# EAGLE library part NODEMCUESP8266 (library NODEMCU)
Node Mcu esp8266 12E LIBRARY BY SDTECH ROBOTICS (Shubham Devkar Technology Solutions)
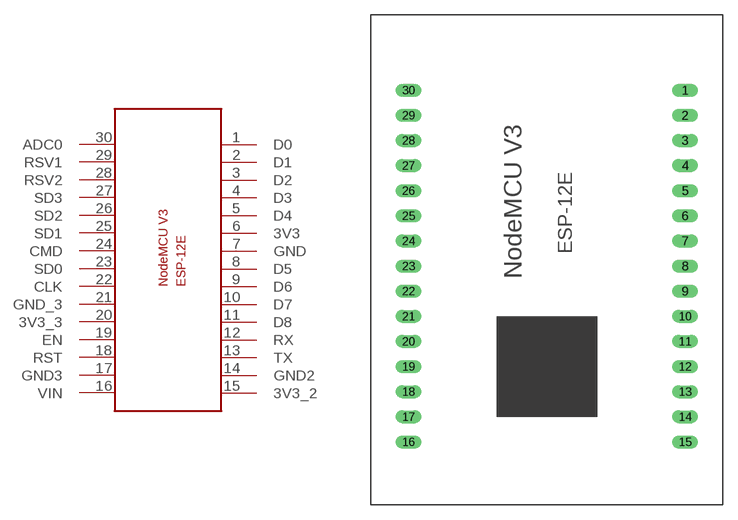
[diagram p0: symbol with the pads of NODEMCUESP8266; footprint NODEMCUESP8266]

Designator prefix -

## NODEMCUESP8266  [NODEMCUESP8266]
1  D0
2  D1
3  D2
4  D3
5  D4
6  3V3
7  GND
8  D5
9  D6
10  D7
11  D8
12  RX
13  TX
14  GND2
15  3V3_2
16  VIN
17  GND3
18  RST
19  EN
20  3V3_3
21  GND_3
22  CLK
23  SD0
24  CMD
25  SD1
26  SD2
27  SD3
28  RSV2
29  RSV1
30  ADC0

## Footprint NODEMCUESP8266 (pad centres in mm)
Node Mcu esp8266 12E LIBRARY BY SDTECH ROBOTICS (Shubham Devkar Technology Solutions)
drill 0.8 long: 1 17.78,15.24; 2 17.78,12.7; 3 17.78,10.16; 4 17.78,7.62; 5 17.78,5.08; 6 17.78,2.54; 7 17.78,0; 8 17.78,-2.54; 9 17.78,-5.08; 10 17.78,-7.62; 11 17.78,-10.16; 12 17.78,-12.7; 13 17.78,-15.24; 14 17.78,-17.78; 15 17.78,-20.32; 16 -10.16,-20.32; 17 -10.16,-17.78; 18 -10.16,-15.24; 19 -10.16,-12.7; 20 -10.16,-10.16; 21 -10.16,-7.62; 22 -10.16,-5.08; 23 -10.16,-2.54; 24 -10.16,0; 25 -10.16,2.54; 26 -10.16,5.08; 27 -10.16,7.62; 28 -10.16,10.16; 29 -10.16,12.7; 30 -10.16,15.24